# Altium schematic symbol library ES7210.SchLib: 1 symbol
Pins are listed as number, name and electrical type; pins without a type are passive.

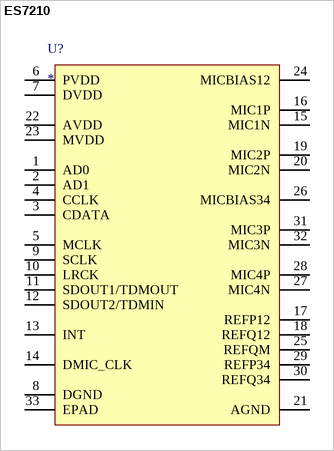
[diagram p0: symbol ES7210]

## ES7210
designator U?
High-Performance Four Channels Audio ADC
footprint ES7210
pins: 1 AD0, 2 AD1, 3 CDATA, 4 CCLK, 5 MCLK, 6 PVDD, 7 DVDD, 8 DGND, 9 SCLK, 10 LRCK, 11 SDOUT1/TDMOUT, 12 SDOUT2/TDMIN, 13 INT, 14 DMIC_CLK, 15 MIC1N, 16 MIC1P, 17 REFP12, 18 REFQ12, 19 MIC2P, 20 MIC2N, 21 AGND, 22 AVDD, 23 MVDD, 24 MICBIAS12, 25 REFQM, 26 MICBIAS34, 27 MIC4N, 28 MIC4P, 29 REFP34, 30 REFQ34, 31 MIC3P, 32 MIC3N, 33 EPAD